# Altium schematic symbol library ISIN.Schlib: 1 symbol
Pins are listed as number, name and electrical type; pins without a type are passive.

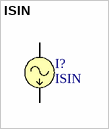
[diagram p0: symbol ISIN]

## ISIN
designator I?
Sinusoidal Current Source
pins: 1, 2